# EAGLE library part ISO7240C (library BMS-Aaron (v6))
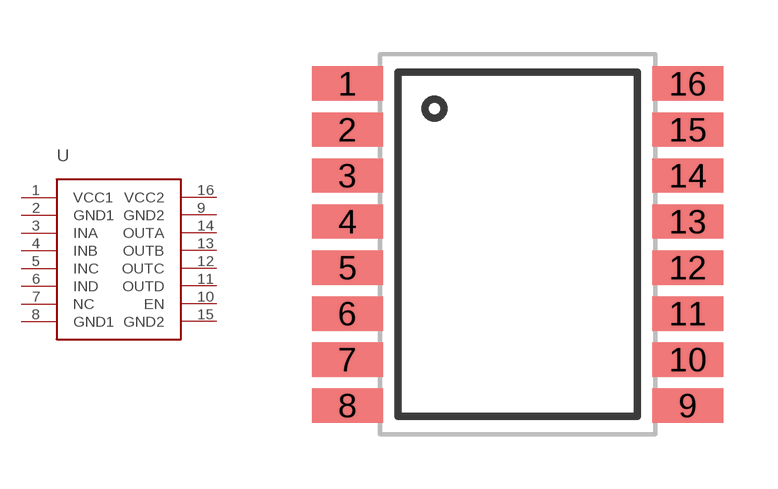
[diagram p1: symbol with the pads of R-PDSO-G16; footprint R-PDSO-G16]

Designator prefix -

## ISO7240CSMD  [R-PDSO-G16]
1  VCC1
2  GND1
3  INA
4  INB
5  INC
6  IND
7  NC  nc
8  GND1
9  GND2
10  EN
11  OUTD
12  OUTC
13  OUTB
14  OUTA
15  GND2
16  VCC2

## Footprint R-PDSO-G16 (pad centres in mm)
smd 1.95 x 0.95: 1 0,8.89; 2 0,7.62; 3 0,6.35; 4 0,5.08; 5 0,3.81; 6 0,2.54; 7 0,1.27; 8 0,0; 9 9.4,0; 10 9.4,1.27; 11 9.4,2.54; 12 9.4,3.81; 13 9.4,5.08; 14 9.4,6.35; 15 9.4,7.62; 16 9.4,8.89